# Altium footprint library TRANSFORMER.PcbLib: 2 footprints
Each footprint in its own frame and in the unit in brackets; x right, y up, seen from the top. Pads: shape width x height; smd on the part's side, far side on the other; paste and mask are expansions set on the pad; w line width, h text height; cw(c..) or ccw(c..) is an arc to the next point about the centre after c.
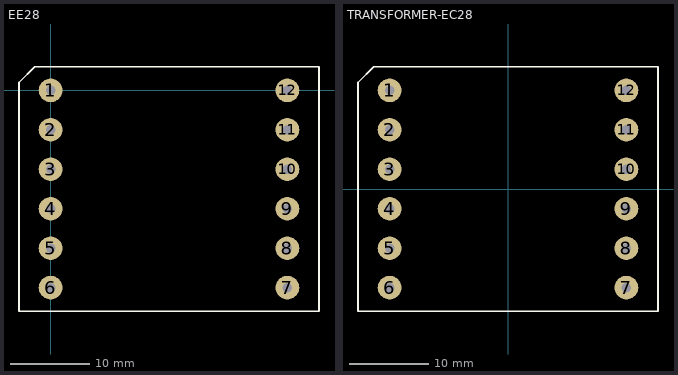
[diagram p0: the footprints below, top view; thin cyan lines are the x and y axes]

## EE28 [mm]
pads (12):
  round 3 hole 1.2: 1(0,0) 2(0,-5) 3(0,-10) 4(0,-15) 5(0,-20) 6(0,-25) 7(30,-25) 8(30,-20) 9(30,-15) 10(30,-10) 11(30,-5) 12(30,0)
Top Overlay:
  lines w0.2: -4,-28 -4,1 -2,3 34,3 34,-28 -4,-28
3D body: height 2, standoff -3, extent 29.75,-25.25 30.25,-24.75
3D body: height 2, standoff -3, extent 29.75,-20.25 30.25,-19.75
3D body: height 2, standoff -3, extent 29.75,-15.25 30.25,-14.75
3D body: height 2, standoff -3, extent 29.75,-10.25 30.25,-9.75
3D body: height 2, standoff -3, extent 29.75,-5.25 30.25,-4.75
3D body: height 2, standoff -3, extent 29.75,-0.25 30.25,0.25
3D body: height 2, standoff -3, extent -0.25,-0.25 0.25,0.25
3D body: height 2, standoff -3, extent -0.25,-5.25 0.25,-4.75
3D body: height 2, standoff -3, extent -0.25,-10.25 0.25,-9.75
3D body: height 2, standoff -3, extent -0.25,-15.25 0.25,-14.75
3D body: height 2, standoff -3, extent -0.25,-20.25 0.25,-19.75
3D body: height 2, standoff -3, extent -0.25,-25.25 0.25,-24.75
3D body: height 18, standoff 12, extent -2.5,-27.5 33,2.5
3D body: height 18, standoff 12, extent -3.5,-27.5 28,2.5
3D body: height 25, standoff 5, extent 2,-27 32.5,2
3D body: height 25, standoff 5, extent -3,-27 28,2
3D body: height 23, standoff 5, extent 2,-20 28,-5
3D body: height 5, standoff 1, extent 28,-27 32,2
3D body: height 5, standoff 1, extent -2,-27 2,2

## TRANSFORMER-EC28 [mm]
pads (12):
  round 3 hole 1.2: 1(-15,12.5) 2(-15,7.5) 3(-15,2.5) 4(-15,-2.5) 5(-15,-7.5) 6(-15,-12.5) 7(15,-12.5) 8(15,-7.5) 9(15,-2.5) 10(15,2.5) 11(15,7.5) 12(15,12.5)
Top Overlay:
  lines w0.2: -19,-15.5 19,-15.5 19,15.5 -17,15.5 -19,13.5 -19,-15.5
3D body: height 23, standoff 9, extent -10.936,-6.804 10.908,6.912
3D body: height 25, standoff 7, extent 10.908,-8.836 13.194,8.69
3D body: height 25, standoff 7, extent -13.222,-8.582 -10.936,8.944
3D body "User Library-EER28L_Spiral.STEP": height 23.97, standoff -4.43, extent -16.57,-14.5 16.57,14.5